# Altium schematic symbol library USB_COM_V2.0.SCHLIB: 16 symbols
Pins are listed as number, name and electrical type; pins without a type are passive.

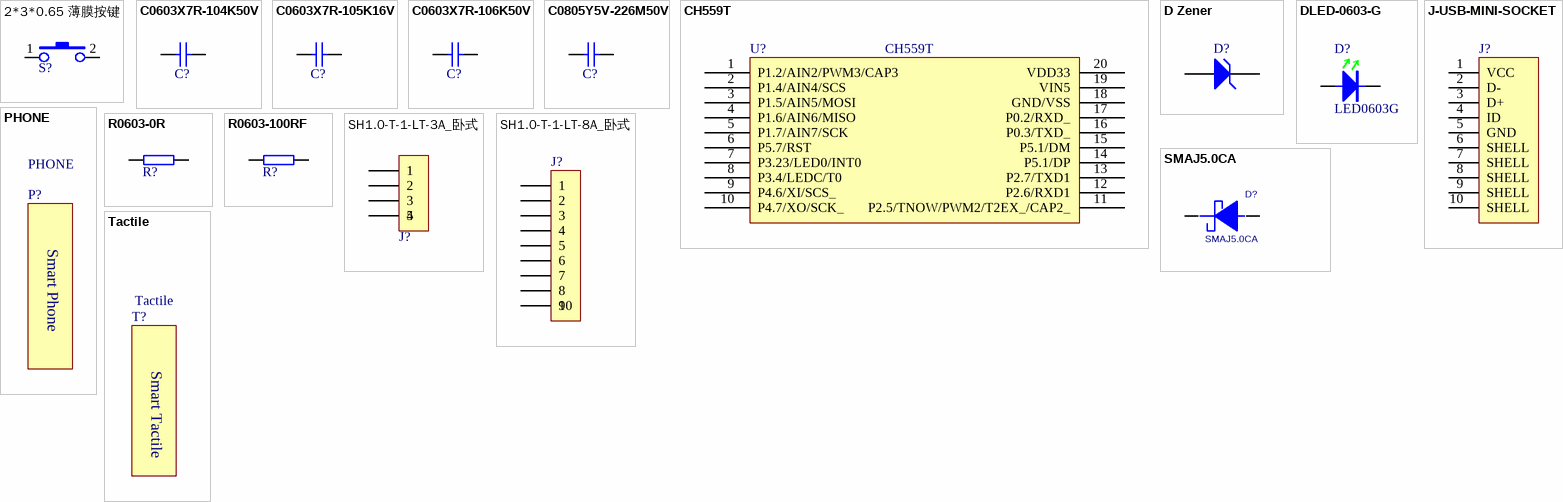
[diagram p0: symbols 2*3*0.65 薄膜按键 to Tactile]

## 2*3*0.65 薄膜按键
designator S?, comment 2*3*0.65  (value not drawn)
薄膜按键
footprint S-K2*3 - duplicate (Precision Wire Wound Inductor, 2-Leads, Body 3.00x2.00mm, IPC Medium Density)
pins: 1, 2

## C0603X7R-104K50V
designator C?, comment 104K50V  (value not drawn)
贴片电容-陶瓷; 规格型号: 100nF±10%_50V_X7R_C0603; 生产商: 风华 三星; 供应商: *; 备注: *
footprint C0603
pins: 1, 2

## C0603X7R-105K16V
designator C?, comment 105K16V  (value not drawn)
贴片电容-陶瓷; 规格型号: 1uF±10%_16V_X7R_C0603; 生产商: 风华 三星; 供应商: *; 备注: *
footprint C0603
pins: 1, 2

## C0603X7R-106K50V
designator C?, comment 106K50V  (value not drawn)
贴片电容-陶瓷; 规格型号: 10uF±10%_50V_X7R_C0603; 生产商: 风华 三星; 供应商: *; 备注: *
footprint C0603
pins: 1, 2

## C0805Y5V-226M50V
designator C?, comment 226M50V  (value not drawn)
贴片电容-陶瓷; 规格型号: 22uF±20%_50V_Y5V_C0805; 生产商: 风华 三星; 供应商: *; 备注: *
footprint C0805
pins: 1, 2

## CH559T
designator U?
usb通信
footprint TSSOP20 (TSOP, 20-Leads, Body 6.50x4.40mm, Pitch 0.65mm, IPC Medium Density)
pins: 1 P1.2/AIN2/PWM3/CAP3, 2 P1.4/AIN4/SCS, 3 P1.5/AIN5/MOSI, 4 P1.6/AIN6/MISO, 5 P1.7/AIN7/SCK, 6 P5.7/RST, 7 P3.23/LED0/INT0, 8 P3.4/LEDC/T0, 9 P4.6/XI/SCS_, 10 P4.7/XO/SCK_, 11 P2.5/TNOW/PWM2/T2EX_/CAP2_, 12 P2.6/RXD1, 13 P2.7/TXD1, 14 P5.1/DP, 15 P5.1/DM, 16 P0.3/TXD_, 17 P0.2/RXD_, 18 GND/VSS, 19 VIN5, 20 VDD33

## D Zener
designator D?, comment ESDA_TR1/0603  (value not drawn)
Zener Diode; Published: *; LatestRevisionDate: *; LatestRevisionNote: *; PackageReference: *; Publisher: *
footprint HS_0603D
pins: 1 A, 2 K
2 alternate drawings of the same symbol

## DLED-0603-G
designator D?, comment LED0603G
贴片二极管-LED; 规格型号: 0603-GREEN; 货品编码: 无样品无编码; 生产商: *; 供应商: *; 备注: *
footprint D-LED0603G
pins: 1, 2

## J-USB-MINI-SOCKET
designator J?, comment USB-MINI-SOCKET  (value not drawn)
USB-A卧式插座; 供应商: *; 备注: *
footprint MICRO-USB - 5.9
pins: 1 VCC, 2 D-, 3 D+, 4 ID, 5 GND, 6 SHELL, 7 SHELL, 8 SHELL, 9 SHELL, 10 SHELL

## PHONE
designator P?
text: Smart Phone

## R0603-0R
designator R?, comment 0R  (value not drawn)
贴片电阻-通用; 生产商: 厚声 国巨; 规格型号: 0R_1/10W_±200ppm_R0603; 货品编码: 无样品无编码; 备注: *; 供应商: *
footprint R0603
pins: 1, 2

## R0603-100RF
designator R?, comment 22R  (value not drawn)
贴片电阻-通用; 生产商: 厚声 国巨; 规格型号: 100R±1%_1/10W_±200ppm_R0603; 备注: *; 供应商: *
footprint R0603
pins: 1, 2

## SH1.0-T-1-LT-3A_卧式
designator J?  (value not drawn)
footprint J-SH1.0-T-1-LT-3A_卧式
pins: 1, 2, 3, 4, 5

## SH1.0-T-1-LT-8A_卧式
designator J?  (value not drawn)
SH1.0-T-1-LT-6A_卧式
footprint J-SH1.0-T-1-LT-8A_卧式
pins: 1, 2, 3, 4, 5, 6, 7, 8, 9, 10

## SMAJ5.0CA
designator D?
PCB DECAL: DO-214; Value: SMAJ5.0CA
footprint DO-214
pins: 1 +, 2 -

## Tactile
designator T?
text: Smart Tactile